# EAGLE library part PINHD-2X10 (library SquantorConnectors)
PIN HEADER
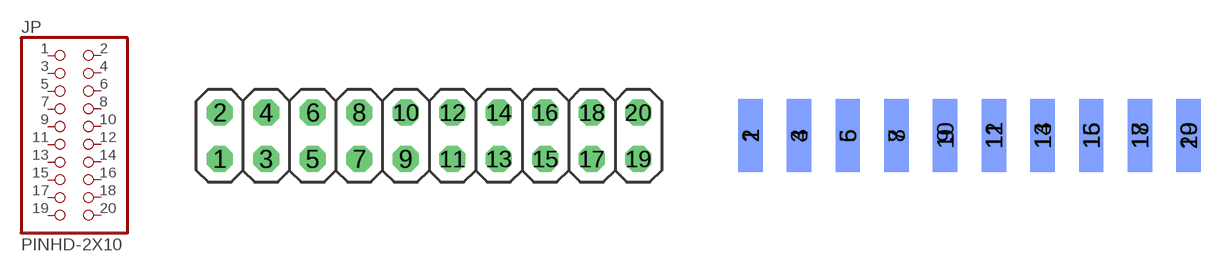
[diagram p32: symbol with the pads of 2X10; footprints 2X10, 2X10SIDE]

Designator prefix JP

## PINHD-2X10TH_NORMAL  [2X10]
1  1  pas
2  2  pas
3  3  pas
4  4  pas
5  5  pas
6  6  pas
7  7  pas
8  8  pas
9  9  pas
10  10  pas
11  11  pas
12  12  pas
13  13  pas
14  14  pas
15  15  pas
16  16  pas
17  17  pas
18  18  pas
19  19  pas
20  20  pas

## PINHD-2X10SMD_SIDE  [2X10SIDE]
Pads as for 2X10

## PINHD-2X10SMD_FLAT  [2X10SMD]
Pads as for 2X10

## PINHD-2X10TH_09MM  [2X10_TH_09MM]
Pads as for 2X10

## Footprint 2X10 (pad centres in mm)
PIN HEADER
drill 0.9 octagon: 1 -11.43,-1.27; 2 -11.43,1.27; 3 -8.89,-1.27; 4 -8.89,1.27; 5 -6.35,-1.27; 6 -6.35,1.27; 7 -3.81,-1.27; 8 -3.81,1.27; 9 -1.27,-1.27; 10 -1.27,1.27; 11 1.27,-1.27; 12 1.27,1.27; 13 3.81,-1.27; 14 3.81,1.27; 15 6.35,-1.27; 16 6.35,1.27; 17 8.89,-1.27; 18 8.89,1.27; 19 11.43,-1.27; 20 11.43,1.27

## Footprint 2X10SIDE (pad centres in mm)
smd 1.27 x 3.81: 1 -11.43,-2.54; 3 -8.89,-2.54; 5 -6.35,-2.54; 7 -3.81,-2.54; 9 -1.27,-2.54; 11 1.27,-2.54; 13 3.81,-2.54; 15 6.35,-2.54; 17 8.89,-2.54; 19 11.43,-2.54
smd 1.27 x 3.81 bottom: 2 -11.43,-2.54; 4 -8.89,-2.54; 6 -6.35,-2.54; 8 -3.81,-2.54; 10 -1.27,-2.54; 12 1.27,-2.54; 14 3.81,-2.54; 16 6.35,-2.54; 18 8.89,-2.54; 20 11.43,-2.54

## Footprint 2X10SMD (pad centres in mm)
smd 1.27 x 3.81: 1 -11.43,-2.54; 2 -11.43,2.54; 3 -8.89,-2.54; 4 -8.89,2.54; 5 -6.35,-2.54; 6 -6.35,2.54; 7 -3.81,-2.54; 8 -3.81,2.54; 9 -1.27,-2.54; 10 -1.27,2.54; 11 1.27,-2.54; 12 1.27,2.54; 13 3.81,-2.54; 14 3.81,2.54; 15 6.35,-2.54; 16 6.35,2.54; 17 8.89,-2.54; 18 8.89,2.54; 19 11.43,-2.54; 20 11.43,2.54

## Footprint 2X10_TH_09MM (pad centres in mm)
drill 0.9 octagon: 1 -11.43,-1.27; 2 -11.43,1.27; 3 -8.89,-1.27; 4 -8.89,1.27; 5 -6.35,-1.27; 6 -6.35,1.27; 7 -3.81,-1.27; 8 -3.81,1.27; 9 -1.27,-1.27; 10 -1.27,1.27; 11 1.27,-1.27; 12 1.27,1.27; 13 3.81,-1.27; 14 3.81,1.27; 15 6.35,-1.27; 16 6.35,1.27; 17 8.89,-1.27; 18 8.89,1.27; 19 11.43,-1.27; 20 11.43,1.27